# Altium footprint library solarchicken.PcbLib: 18 footprints (part 2 of 2)
Each footprint in its own frame and in the unit in brackets; x right, y up, seen from the top. Pads: shape width x height; smd on the part's side, far side on the other; paste and mask are expansions set on the pad; w line width, h text height; cw(c..) or ccw(c..) is an arc to the next point about the centre after c.
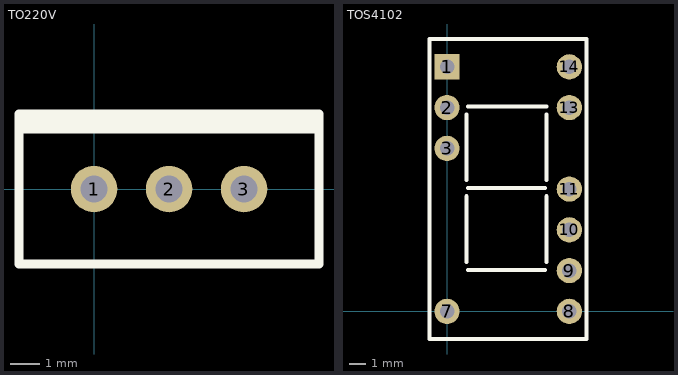
[diagram p1: the footprints below, top view; thin cyan lines are the x and y axes]

## TO220V [mil]
pads (3):
  round 62 hole 36: 1(0,0) 2(100,0) 3(200,0)
Top Overlay:
  lines w12: -100,80 300,80 ; -100,90 300,90 ; -100,-100 300,-100 300,100 -100,100 -100,-90 -100,-100

## TOS4102 [mil] "LED 7 SEGMENT"
pads (10):
  rect 62x62 hole 35.43: 1(0,600)
  round 62 hole 35.43: 2(0,500) 3(0,400) 7(0,0) 8(300,0) 9(300,100) 10(300,200) 11(300,300) 13(300,500) 14(300,600)
Top Overlay:
  lines w10: 47.24,121.06 47.24,282.48 ; 47.24,321.85 47.24,483.27 ; 51.18,101.38 240.16,101.38 ; 51.18,302.17 240.16,302.17 ; 51.18,502.95 244.09,502.95 ; 244.09,121.06 244.09,282.48 ; 244.09,321.85 244.09,483.27 ; -43.31,-67.91 342.52,-67.91 342.52,668.31 -43.31,668.31 -43.31,-67.91